# EAGLE library part TPA3125D2N (library JayCollett)
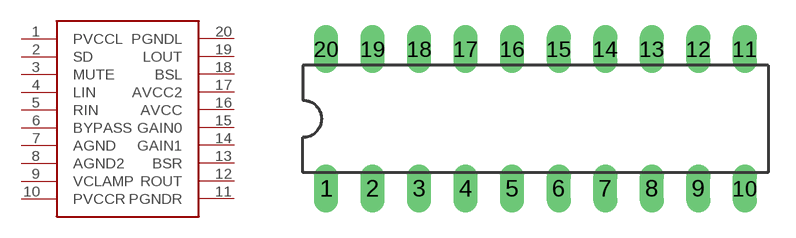
[diagram p1: symbol with the pads of DIL20; footprint DIL20]

Designator prefix -

## TPA3125D2N  [DIL20]
1  PVCCL
2  SD
3  MUTE
4  LIN
5  RIN
6  BYPASS
7  AGND
8  AGND2
9  VCLAMP
10  PVCCR
11  PGNDR
12  ROUT
13  BSR
14  GAIN1
15  GAIN0
16  AVCC
17  AVCC2
18  BSL
19  LOUT
20  PGNDL

## Footprint DIL20 (pad centres in mm)
Dual In Line Package
drill 0.813 long: 1 -11.43,-3.81; 2 -8.89,-3.81; 3 -6.35,-3.81; 4 -3.81,-3.81; 5 -1.27,-3.81; 6 1.27,-3.81; 7 3.81,-3.81; 8 6.35,-3.81; 9 8.89,-3.81; 10 11.43,-3.81; 11 11.43,3.81; 12 8.89,3.81; 13 6.35,3.81; 14 3.81,3.81; 15 1.27,3.81; 16 -1.27,3.81; 17 -3.81,3.81; 18 -6.35,3.81; 19 -8.89,3.81; 20 -11.43,3.81